# Altium schematic symbol library Buttons.SchLib: 3 symbols
Pins are listed as number, name and electrical type; pins without a type are passive.

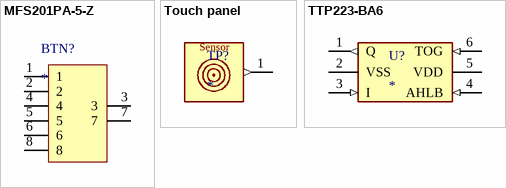
[diagram p0: symbols MFS201PA-5-Z to TTP223-BA6]

## MFS201PA-5-Z
designator BTN?
footprint MFS201PA5Z
pins: 1, 2, 3, 4, 5, 6, 7, 8

## Touch panel
designator TP?
PCB Touch panel
footprint Touch panel
pins: 1 (out)
text: Sensor

## TTP223-BA6
designator U?
Operating voltage 2.0V~5.5V / Operating current @VDD=3V, no load / At low power mode typical 1.5uA, maximum 3.0uA / The response time max 220mS at low power mode @VDD=3V / Sensitivity can adjust by the capacitance(0~50pF) outside; Matufacturer: OSEPP Electronics LTD; Case: SOT-23-6L; Supplier 1: Digi-Key; Supplier Part Number: 2234-TOUCH-01-ND; ComponentLink1Description: HelpURL; ComponentLink1URL: https://datasheet.lcsc.com/szlcsc/TTP223-BA6_C80757.pdf
footprint SOT95P292X126-6N (SOT23, 6-Leads, Body 3,00x2,93mm, Pitch 0,95mm, IPC Medium Density)
pins: 1 Q (out), 2 VSS (power), 3 I (in), 4 AHLB (in), 5 VDD (power), 6 TOG (in)